# Altium schematic symbol library BluetoothAdapter.SCHLIB: 29 symbols
Pins are listed as number, name and electrical type; pins without a type are passive.

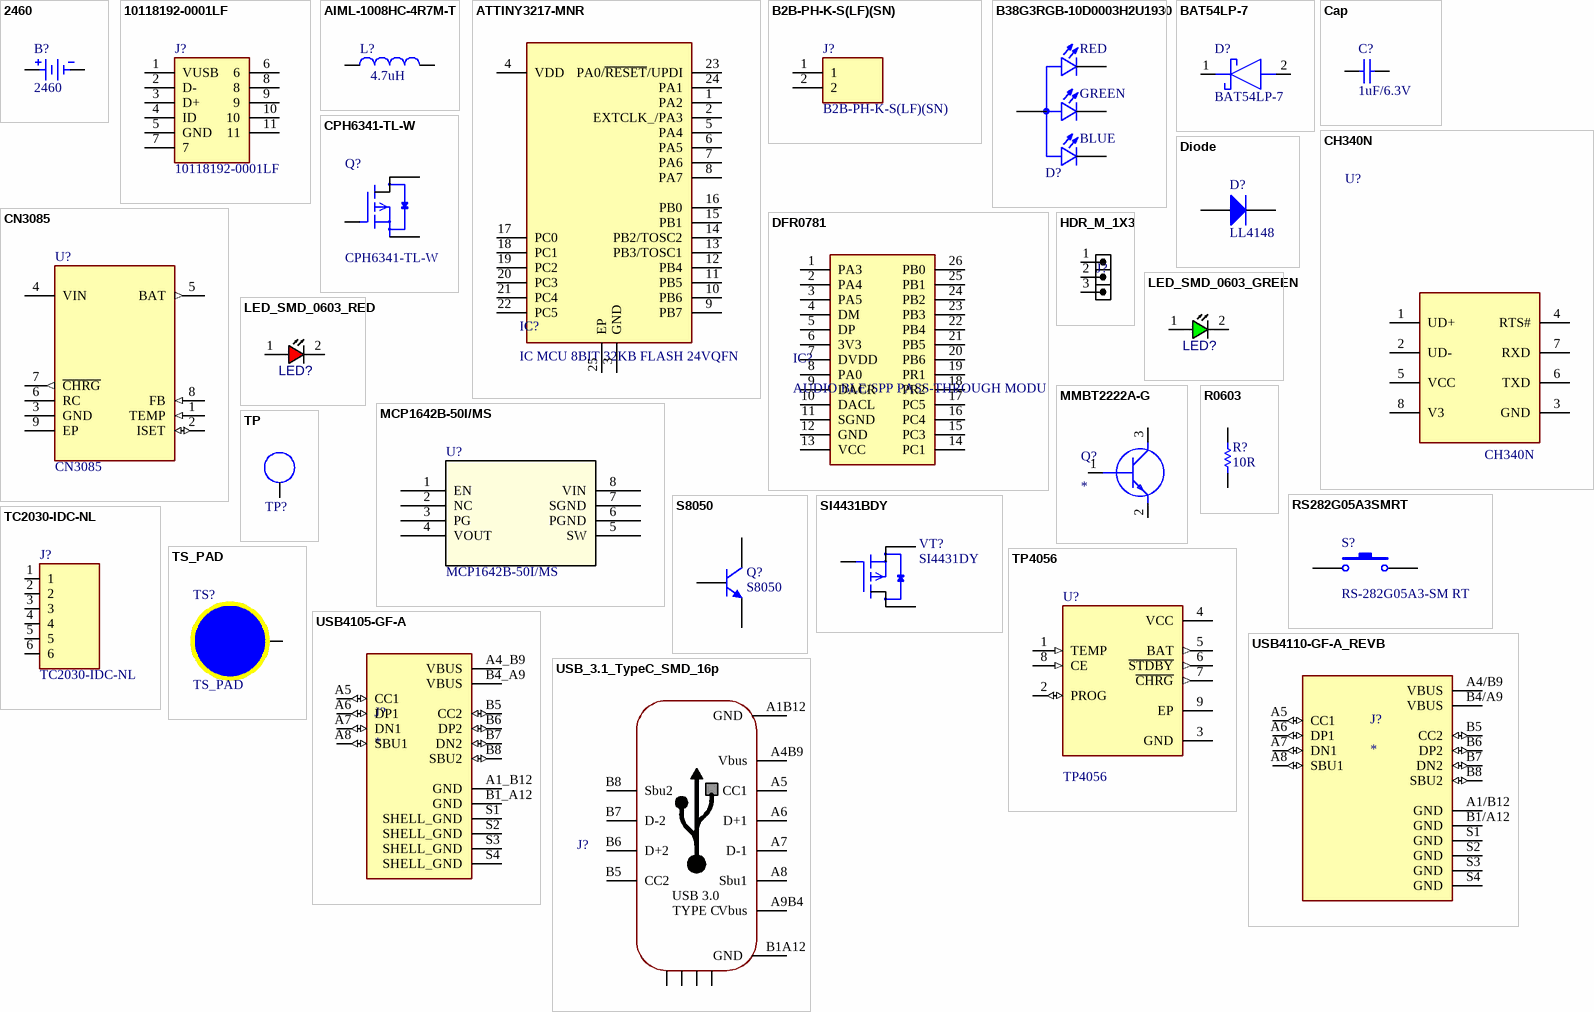
[diagram p0: symbols 2460 to USB_3.1_TypeC_SMD_16p]

## 2460
designator B?, comment value 2460  (hidden comment: BATT HOLDER AA 1 CELL PC PIN)
Battery Holder (Open) AA 1 Cell PC Pin; Manufacturer: Keystone Electronics; Manufacturer Product Number: 2460; Digi-Key Part Number: 36-2460-ND; Digi-Key PurchaseURL: https://www.digikey.com/en/products/detail/keystone-electronics/2460/280629
footprint 2460_KEY
pins: 1 +, 2 -

## 10118192-0001LF
designator J?, comment value 10118192-0001LF  (hidden comment: CONN RCPT USB2.0 MICRO B SMD R/A)
USB - micro B USB 2.0 Receptacle Connector 5 Position Surface Mount, Right Angle; Manufacturer: Amphenol; Manufacturer Product Number: 10118192-0001LF; Digi-Key Part Number: 609-4613-6-ND; Digi-Key PurchaseURL: https://www.digikey.com/en/products/detail/amphenol-cs-fci/10118192-0001LF/2785387?s=N4IgTCBcDaIIwAY5wBxwJxgLQN3AMgGIgC6AvkA
footprint 101181920001LF
pins: 1 VUSB, 2 D-, 3 D+, 4 ID, 5 GND, 6, 7, 8, 9, 10, 11

## AIML-1008HC-4R7M-T
designator L?, comment 4.7uH
FIXED IND 4.7UH 1.3A 120MOHM SMD; MF: Abracon LLC; MP: AIML-1008HC-4R7M-T; Availability: In Stock; Price: None; Value: *; Package: 2520 Taiyo Yuden; Purchase-URL: https://pricing.snapeda.com/search/part/AIML-1008HC-4R7M-T/?ref=eda
footprint INDC2520X100N
pins: 1, 2

## ATTINY3217-MNR
designator IC?, comment IC MCU 8BIT 32KB FLASH 24VQFN
AVR tinyAVR™ 1, Functional Safety (FuSa) Microcontroller IC 8-Bit 20MHz 32KB (32K x 8) FLASH 24-VQFN (4x4); Manufacturer: Microchip; Manufacturer Product Number: ATTINY3217-MNR; Value: ATTINY3217-MNR; Digi-Key Part Number: ATTINY3217-MNRDKR-ND; Digi-Key PurchaseURL: https://www.digikey.com/en/products/detail/microchip-technology/ATTINY3217-MNR/9477738?s=N4IgTCBcDaIIIBUEEkByBNAzGAjAdgFoBZVAJRAF0BfIA
footprint QFN50P400X400X90-25N-D
pins: 1 PA2, 2 EXTCLK_/PA3, 3 GND, 4 VDD, 5 PA4, 6 PA5, 7 PA6, 8 PA7, 9 PB7, 10 PB6, 11 PB5, 12 PB4, 13 PB3/TOSC1, 14 PB2/TOSC2, 15 PB1, 16 PB0, 17 PC0, 18 PC1, 19 PC2, 20 PC3, 21 PC4, 22 PC5, 23 PA0/~{RESET}/UPDI, 24 PA1, 25 EP

## B2B-PH-K-S(LF)(SN)
designator J?, comment value B2B-PH-K-S(LF)(SN)  (hidden comment: CONN HEADER VERT 2POS 2MM)
Connector Header Through Hole 2 position 0.079" (2.00mm); Manufacturer: JST Sales America Inc.; Manufacturer Product Number: B2B-PH-K-S(LF)(SN); Digi-Key Part Number: 455-1704-ND; Digi-Key PurchaseURL: https://www.digikey.com/en/products/detail/jst-sales-america-inc/B2B-PH-K-S-LF-SN/926611
footprint SHDR2W50P0X200_1X2_590X450X600P
pins: 1, 2

## B38G3RGB-10D0003H2U1930
designator D?, comment LED RGB MIXED WHITE ( 1.6(L)X1.6  (value not drawn)
Red, Green, Blue (RGB) LED Indication - Discrete 2V Red, 3V Green, 3V Blue 0606 (1616 Metric); Manufacturer: Harvatek Corporation; Manufacturer Product Number: B38G3RGB-10D0003H2U1930; Value: B38G3RGB-10D0003H2U1930; Digi-Key Part Number: 3147-B38G3RGB-10D0003H2U1930DKR-ND; Digi-Key PurchaseURL: https://www.digikey.com/en/products/detail/harvatek-corporation/B38G3RGB-10D0003H2U1930/13588733?s=N4IgTCBcDaIEIGYAcBxBAlFcC0BGADACL4kIASYAqrgJwL4gC6AvkA
footprint LED_B38G3RGB-10D0003H2U1930
pins: 1 G_C, 2 B_C, 3 A, 4 R_C
text: RED; GREEN; BLUE

## BAT54LP-7
designator D?, comment value BAT54LP-7  (hidden comment: DIODE SCHOTTKY 30V 200MA 2DFN)
Diode 30 V 200mA Surface Mount X1-DFN1006-2; Manufacturer: Diodes Inc.; Manufacturer Product Number: BAT54LP-7; Digi-Key Part Number: BAT54LPDIDKR-ND; Digi-Key PurchaseURL: https://www.digikey.com/en/products/detail/diodes-incorporated/BAT54LP-7/765611
footprint DESD3V3S1BL7B
pins: 1 K, 2 A

## Cap
designator C?, comment value 1uF/6.3V  (hidden comment: CAP CER 0603 1UF 6.3V X7R 10%)
1 µF ±10% 6.3V Ceramic Capacitor X7R 0603 (1608 Metric); Manufacturer: KEMET; Manufacturer Product Number: C0603X105K9RAC7867; TemperatureCoefficient: X7R; Digi-Key Part Number: 399-17709-6-ND; Digi-Key PurchaseURL: https://www.digikey.com/en/products/detail/kemet/C0603X105K9RAC7867/8635836
footprint C0603S (CHIP Capacitor, 1.6X0.8mm, 0603, soldered)
pins: 1, 2

## CH340N
designator U?, comment value CH340N  (hidden comment: IC USB TO UART BRIDGE SOP-8)
Manufacturer: WCH(Jiangsu Qin Heng); Manufacturer Product Number: CH340N; Digi-Key Part Number: C506813; Digi-Key PurchaseURL: https://www.lcsc.com/product-detail/USB-ICs_WCH-Jiangsu-Qin-Heng-CH340N_C506813.html
footprint SOIC127P602X173-8N
pins: 1 UD+, 2 UD-, 3 GND, 4 RTS#, 5 VCC, 6 TXD, 7 RXD (power), 8 V3

## CN3085
designator U?, comment value CN3085  (hidden comment: SOP-8-EP Battery Management ICs ROHS)
Manufacturer: ShangHai Consonance Elec; Manufacturer Product Number: CN3085; Digi-Key Part Number: C93054; Digi-Key Purchase URL: https://www.lcsc.com/product-detail/Battery-Management-ICs_ShangHai-Consonance-Elec-CN3085_C93054.html
footprint SOP-8_L4.9-W3.9-P1.27-LS6.0-BL-EP
pins: 1 TEMP (in), 2 ISET (io), 3 GND (power), 4 VIN (power), 5 BAT (out), 6 RC, 7 ~{CHRG} (out), 8 FB (in), 9 EP

## CPH6341-TL-W
designator Q?, comment value CPH6341-TL-W  (hidden comment: MOSFET P-CH 30V 5A 6CPH)
P-Channel 30 V 5A (Ta) 1.6W (Ta) Surface Mount 6-CPH; Manufacturer: onsemi; Manufacturer Product Number: CPH6341-TL-W; Digi-Key Part Number: CPH6341-TL-WOSDKR-ND; Digi-Key PurchaseURL: https://www.digikey.com/en/products/detail/onsemi/CPH6341-TL-W/4847611
footprint SOT95P285X140-6N
pins: 1 D@1, 2 D@2, 3 G, 4 S, 5 D@3, 6 D@4

## DFR0781
designator IC?, comment AUDIO BLE/SPP PASS-THROUGH MODU
Bluetooth Bluetooth v5.0 Transceiver Module Antenna Not Included Surface Mount; Manufacturer: DFRobot; Manufacturer Product Number: DFR0781; Value: DFR0781; Digi-Key Part Number: 1738-DFR0781-ND; Digi-Key PurchaseURL: https://www.digikey.com/en/products/detail/dfrobot/DFR0781/13688344?s=N4IgTCBcDaICYDMBOAGA7ADgIwgLoF8g
footprint DFR0781
pins: 1 PA3, 2 PA4, 3 PA5, 4 DM, 5 DP, 6 3V3, 7 DVDD, 8 PA0, 9 DACR, 10 DACL, 11 SGND, 12 GND, 13 VCC, 14 PC1, 15 PC3, 16 PC4, 17 PC5, 18 PR2, 19 PR1, 20 PB6, 21 PB5, 22 PB4, 23 PB3, 24 PB2, 25 PB1, 26 PB0

## Diode
designator D?, comment value LL4148  (hidden comment: DIODE GEN PURP 100V 200MA SOD80)
Diode Standard 100 V 200mA Surface Mount SOD-80; Manufacturer: onsemi; TemperatureCoefficient: -55°C ~ 175°C; Manufacturer Product Number: LL4148; Digi-Key Part Number: LL4148FSCT-ND; Digi-Key PurchaseURL: https://www.digikey.com/en/products/detail/onsemi/LL4148/1923046; LCSC Part Number: C9808; LCSC Purchase URL: https://www.lcsc.com/product-detail/Switching-Diode_ST-Semtech-LL4148_C9808.html
simulation model DIODE (Diode)
signal-integrity model Diode
footprint DIO_LL4148
pins: 1 A, 2 K

## HDR_M_1X3
designator J?, comment HDRM3  (value not drawn)
CONN, HEADER, Male, pitch: 2.54mm, 3POS; VALUE: HDRM3
footprint HDR_M_1X3 (Connector; Header; 3 Position)
pins: 1, 2, 3

## LED_SMD_0603_GREEN
designator LED?, comment LED GREEN CLEAR 0603 SMD  (value not drawn)
Green 520nm LED Indication - Discrete 3.2V 0603 (1608 Metric); Manufacturer: Würth Elektronik; Manufacturer Product Number: 150060GS75000; Value: 150060GS75000; Digi-Key Part Number: 732-4971-6-ND; Digi-Key PurchaseURL: https://www.digikey.com/en/products/detail/w%C3%BCrth-elektronik/150060GS75000/4489898
footprint LED0603RED (LED SMD 0603, RED)
pins: 1 ANODE, 2 CATHODE

## LED_SMD_0603_RED
designator LED?, comment WL-SMCW SMT MONO-COLOR CHIP LED  (value not drawn)
Amber 605nm LED Indication - Discrete 2V 0603 (1608 Metric); Manufacturer: Würth Elektronik; Value: 150060AS75000; Manufacturer Product Number: 150060AS75000; Digi-Key Part Number: 732-150060AS75000TR-ND; Digi-Key PurchaseURL: https://www.digikey.com/en/products/detail/w%C3%BCrth-elektronik/150060as75000/10468254
footprint LED0603RED (LED SMD 0603, RED)
pins: 1 ANODE, 2 CATHODE

## MCP1642B-50I/MS
designator U?
IC REG BOOST 5V 800MA 8MSOP
footprint MCP1642B-50I/MS
pins: 1 EN, 2 NC, 3 PG, 4 VOUT, 5 SW, 6 PGND, 7 SGND, 8 VIN

## MMBT2222A-G
designator Q?
Transistor BJT NPN; Manufacturer_Name: Comchip Technology; Manufacturer_Part_Number: MMBT2222A-G; Datasheet Link: https://datasheet.datasheetarchive.com/originals/distributors/Datasheets-7/DSA-138996.pdf; Height: 1.15mm; Mouser Part Number: 750-MMBT2222A-G; Mouser Price/Stock: https://www.mouser.co.uk/ProductDetail/Comchip-Technology/MMBT2222A-G?qs=2qJf6qQ4IOIM%2FSE9iCL8gQ%3D%3D; Arrow Part Number: MMBT2222A-G; Arrow Price/Stock: https://www.arrow.com/en/products/mmbt2222a-g/comchip-technology?region=nac
footprint SOT95P240X115-3N
pins: 1 B, 2 E, 3 C

## R0603
designator R?, comment value 10R  (hidden comment: RES 10 OHM 1% 1/10W 0603)
10 Ohms ±1% 0.1W, 1/10W Chip Resistor 0603 (1608 Metric) Moisture Resistant Thick Film; Manufacturer: YAGEO; Manufacturer Product Number: RC0603FR-0710RL; Digi-Key Part Number: 311-10.0HRDKR-ND; Digi-Key PurchaseURL: https://www.digikey.com/en/products/detail/yageo/RC0603FR-0710RL/726879
footprint R0603S (CHIP Resistor 1/10 WATT, 1.6x0.8mm, 0603, 1608, soldered)
pins: 1, 2

## RS282G05A3SMRT
designator S?, comment value RS-282G05A3-SM RT  (hidden comment: SWITCH TACTILE SPST-NO 0.05A 12V)
Tactile Switch SPST-NO Top Actuated Surface Mount; Manufacturer: C & K COMPONENTS; Manufacturer Product Number: RS-282G05A3-SM RT; Digi-Key Part Number: CKN10384DKR-ND; Digi-Key PurchaseURL: https://www.digikey.com/en/products/detail/c-k/RS-282G05A3-SM-RT/2747190
footprint RS282G05A3SMRT
pins: 1, 2

## S8050
designator Q?, comment value S8050  (hidden comment: TRANS NPN 25V 0.5A SOT23)
Bipolar (BJT) Transistor NPN 25 V 500 mA 150MHz 300 mW Surface Mount SOT-23; Manufacturer: MDD; Manufacturer Product Number: S8050; Digi-Key Part Number: 3372-S8050TR-ND; Digi-Key PurchaseURL: https://www.digikey.com/en/products/detail/nextgen-components/S8050/16602420
footprint SOT23-3D
pins: 1 B, 2 C, 3 E

## SI4431BDY
designator VT?, comment value SI4431DY  (hidden comment: P-CHANNEL MOSFET)
P-Channel 30 V 6.3A (Ta) 1W (Ta) Surface Mount 8-SOIC; Manufacturer: Fairchild Semiconductor; Manufacturer Product Number: SI4431DY; Digi-Key Part Number: 2156-SI4431DY-ND; Digi-Key Purchase URL: https://www.digikey.com/en/products/detail/rochester-electronics-llc/SI4431DY/12129929; LCSC Part Number: C3279898; LCSC Purchase URL: https://www.lcsc.com/search?q=SI4431DY
footprint SO-8
pins: 1 S@1, 2 S@2, 3 S@3, 4 G, 5 D@1, 6 D@2, 7 D@3, 8 D@4

## TC2030-IDC-NL
designator J?
6-PIN PLUG-OF-NAILS CABLE 6; MF: Tag-Connect; Package: Package Analog Devices; Availability: Unavailable; Value: *; MP: TC2030-IDC-NL; SnapEDA_Link: https://www.snapeda.com/parts/TC2030-IDC-NL/Tag-Connect/view-part/2783029/?ref=snap; Price: None
footprint TAG_TC2030-IDC-NL
pins: 1, 2, 3, 4, 5, 6

## TP
designator TP?  (value not drawn)
footprint TP
pins: 1

## TP4056
designator U?
Complete single cell Li-Ion battery with a constant current / constant voltage linear charger; Manufacturer: NanJing Top Power ASIC Corp.; Manufacturer Product Number: *; Digi-Key Part Number: *; Digi-Key Purchase URL: *; Value: TP4056
footprint SOP127P600X175-9N
pins: 1 TEMP (in), 2 PROG (io), 3 GND (power), 4 VCC (power), 5 BAT (out), 6 ~{STDBY} (out), 7 ~{CHRG} (out), 8 CE (in), 9 EP

## TS_PAD
designator TS?
footprint TS_PAD
pins: 1

## USB4105-GF-A
designator J?
USB-C (USB TYPE-C) USB 2.0 Receptacle Connector 24 (16+8 Dummy) Position Surface Mount, Right Angle; Through Hole; MP: USB4105-GF-A; MF: GCT; Price: None; Availability: In Stock; Package: None; SnapEDA_Link: https://www.snapeda.com/parts/USB4105-GF-A/Global+Connector+Technology/view-part/?ref=snap; Check_prices: https://www.snapeda.com/parts/USB4105-GF-A/Global+Connector+Technology/view-part/?ref=eda; Value: *; Purchase-URL: https://pricing.snapeda.com/search/part/USB4105-GF-A/?ref=eda
footprint GCT_USB4105-GF-A
pins: A1_B12 GND (power), A4_B9 VBUS (power), A5 CC1 (io), A6 DP1 (io), A7 DN1 (io), A8 SBU1 (io), B1_A12 GND (power), B4_A9 VBUS (power), B5 CC2 (io), B6 DP2 (io), B7 DN2 (io), B8 SBU2 (io), S1 SHELL_GND (power), S2 SHELL_GND (power), S3 SHELL_GND (power), S4 SHELL_GND (power)

## USB4110-GF-A_REVB
designator J?
USB-C (USB TYPE-C) USB 2.0 Receptacle Connector 24 (16+8 Dummy) Position Surface Mount, Right Angle; Through Hole; MP: USB4110-GF-A; MF: GCT; SnapEDA_Link: https://www.snapeda.com/parts/USB4110-GF-A/Global+Connector+Technology/view-part/?ref=snap; Package: None; Check_prices: https://www.snapeda.com/parts/USB4110-GF-A/Global+Connector+Technology/view-part/?ref=eda; Purchase-URL: https://pricing.snapeda.com/search/part/USB4110-GF-A/?ref=eda; Price: None; Value: *; Availability: In Stock
footprint GCT_USB4110-GF-A_REVB
pins: A1/B12 GND (power), A4/B9 VBUS (power), A5 CC1 (io), A6 DP1 (io), A7 DN1 (io), A8 SBU1 (io), B1/A12 GND (power), B4/A9 VBUS (power), B5 CC2 (io), B6 DP2 (io), B7 DN2 (io), B8 SBU2 (io), S1 GND (power), S2 GND (power), S3 GND (power), S4 GND (power)

## USB_3.1_TypeC_SMD_16p
designator J?  (value not drawn)
USB 3.1 Type C SMD 16P; Manufacturer’s ordering code: 632723300011; Manufacturer: Würth Elektronik; Part Number: USB 3.1 Type C Receptacle Horizontal THR WR-COM 1.6mm PCB thickness; Alternate Manufacturer: *; Alternate Manufacturer Code: *; Order Code Mouser: 710-632723300011; Order Code Digikey: 732-9618-1-ND; Order Code TME: *; TaoBao Purchase URL: https://item.taobao.com/item.htm?spm=a230r.1.14.1.6a515b38czXcyl&id=573090887123&ns=1&abbucket=18#detail
footprint USB3.1 C - china 16PF DIP (USB3 type C - montage sur CI - Femmelle - Angle droit - Composant Certifié (x=1 -> PCB height= 1mm TID : 5,200,000,115 // x=3 -> PCB height= 1mm TID : 5,200,000,116))
pins: A1B12 GND, A4B9 Vbus, A5 CC1, A6 D+1, A7 D-1, A8 Sbu1, A9B4 Vbus, B1A12 GND, B5 CC2, B6 D+2, B7 D-2, B8 Sbu2, SH, SH, SH, SH
text: USB 3.0; TYPE C